# EAGLE library part ELM323SM (library ELM)
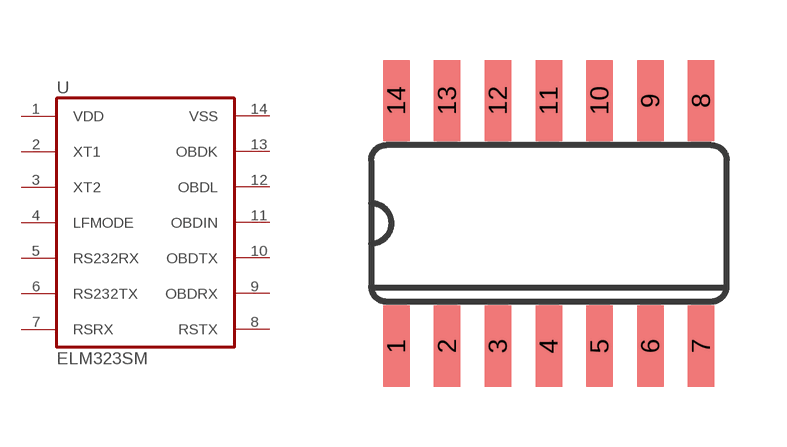
[diagram p1: symbol with the pads of ELM323SM; footprint ELM323SM]

Designator prefix -

## ELM323SM  [ELM323SM]
1  VDD  pwr
2  XT1
3  XT2
4  LFMODE
5  RS232RX
6  RS232TX
7  RSRX
8  RSTX
9  OBDRX
10  OBDTX
11  OBDIN
12  OBDL
13  OBDK
14  VSS  pwr

## Footprint ELM323SM (pad centres in mm)
smd 0.66 x 2.032: 1 -5.08,3.277; 2 -3.81,3.277; 3 -2.54,3.277; 4 -1.27,3.277; 5 0,3.277; 6 1.27,3.277; 7 2.54,3.277; 8 2.54,9.423; 9 1.27,9.423; 10 0,9.423; 11 -1.27,9.423; 12 -2.54,9.423; 13 -3.81,9.423; 14 -5.08,9.423